# EAGLE library part PCF8523T (library PCF8523T)
NXP Semiconductors Real-Time Clock (RTC) and calendar
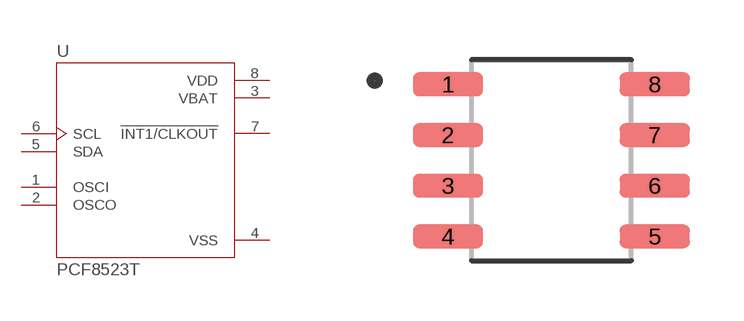
[diagram p0: symbol with the pads of SOIC127P600X175-8N; footprint SOIC127P600X175-8N]

Designator prefix U

## PCF8523T (Description: Real Time Clock (RTC) IC Clock/Calendar I²C, 2-Wire Serial 8-SOIC (0.154, 3.90mm Width); Digi-Key_Part_Number: 568-5306-1-ND; MF: NXP USA; MP: PCF8523T; Package: VDFN-8 NXP USA)  [SOIC127P600X175-8N]
1  OSCI  in
2  OSCO  out
3  VBAT  pwr
4  VSS  pwr
5  SDA
6  SCL  in
7  !INT1/CLKOUT  out
8  VDD  pwr

## Footprint SOIC127P600X175-8N (pad centres in mm)
smd 1.75 x 0.59: 1 -2.585,1.905; 2 -2.585,0.635; 3 -2.585,-0.635; 4 -2.585,-1.905; 5 2.585,-1.905; 6 2.585,-0.635; 7 2.585,0.635; 8 2.585,1.905